# Altium integrated library Analog_Devices_Power_Management_Linear_Regulators.IntLib: 441 symbols (part 20 of 23)
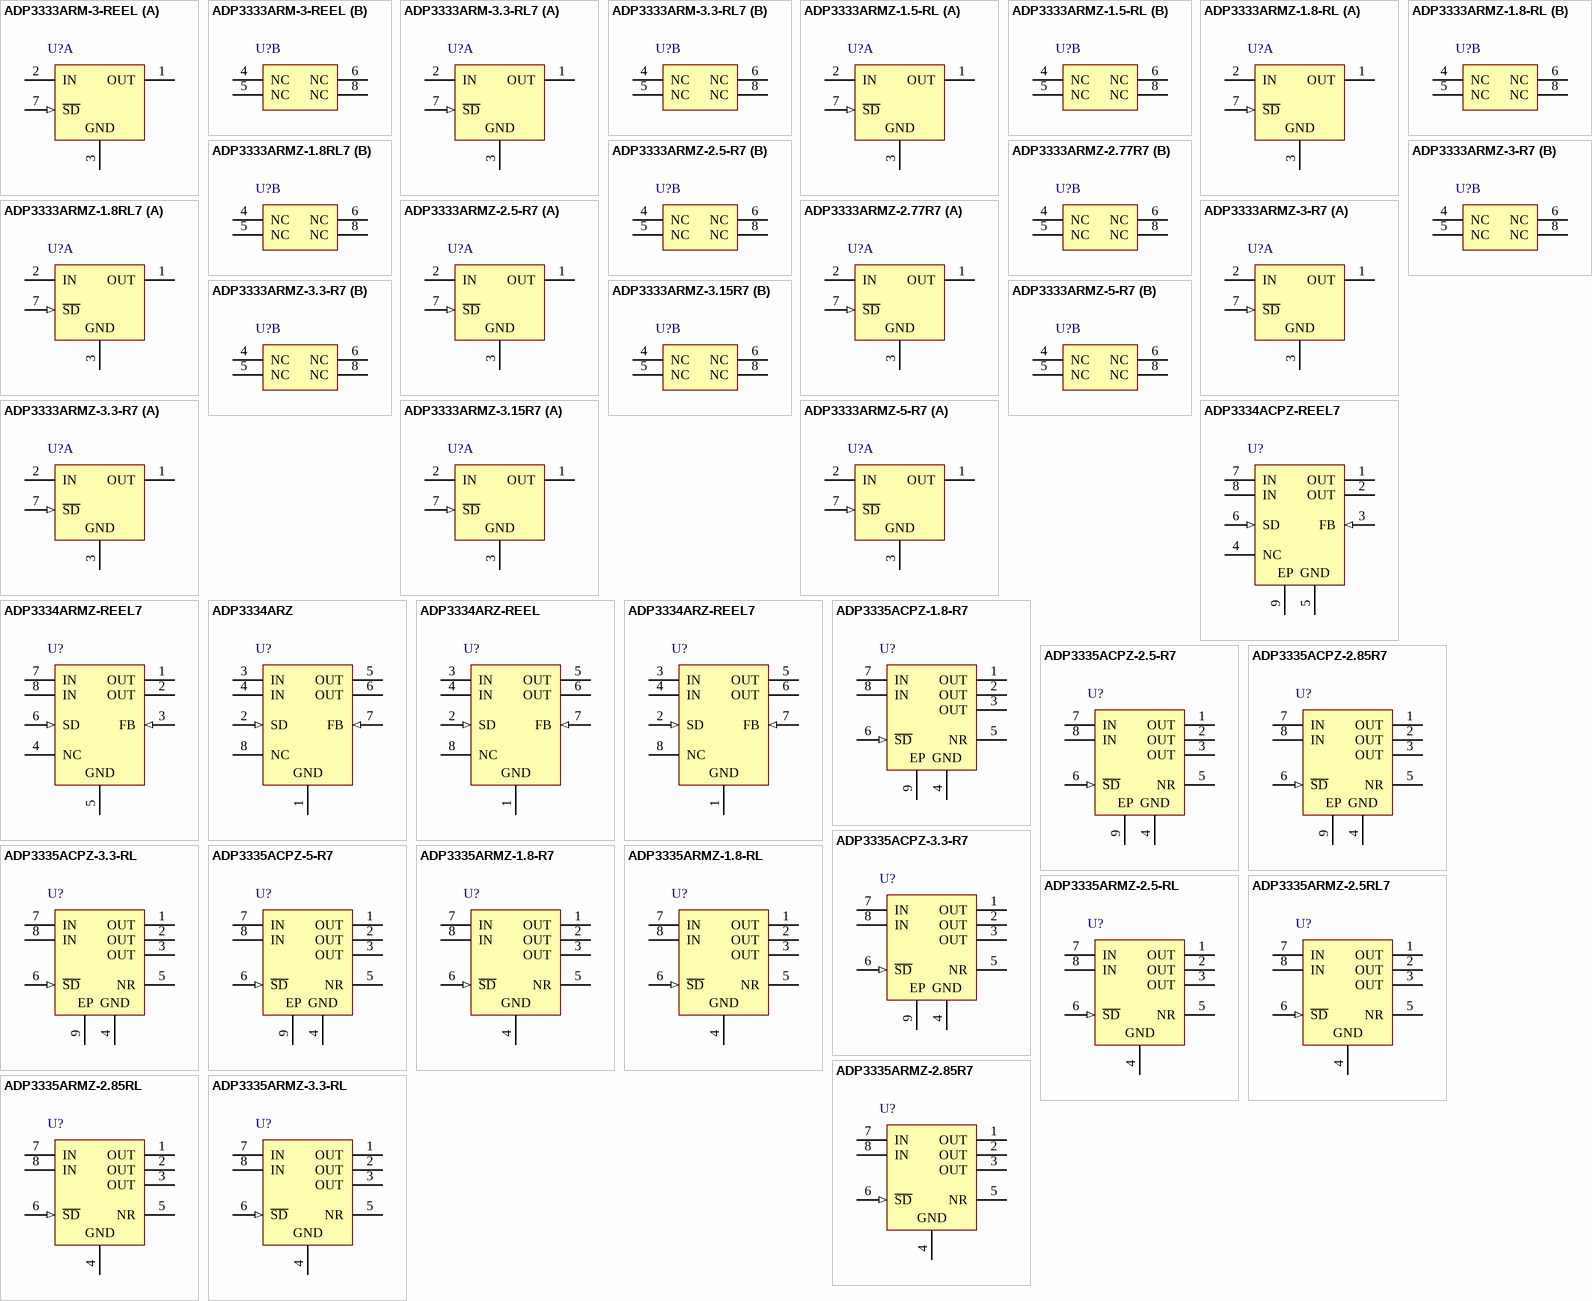
[diagram p30: symbols ADP3333ARM-3-REEL to ADP3335ARMZ-3.3-RL]

## ADP3335ARMZ-2.5RL7
designator U?
High Accuracy, Ultralow IQ, 500 mA, anyCAP Low Dropout Regulator, 2.6 to 12 V Vin, 2.5 V Vout, Industrial, 8-pin SOP (RM-8), Reel; Manufacturer: Analog Devices; PartNumber: ADP3335ARMZ-2.5RL7; Iout max: 500mA; Preset Vout Values (V): 2.5; Supply Current IGND @ Small Load: 80uA; Vin (max) (V): 12; Vin (min) (V): 2.6; DatasheetVersion: Rev. C; PackageVersion: Aug-05; PackageReference: RM-8; PackageDescription: 8-Pin Mini Small Outline Package, Body 3 x 3 mm, Pitch 0.65 mm; Supplier 1: Digi-Key; Supplier Part Number 1: ADP3335ARMZ-2.5RL7TR-ND; Supplier 2: Digi-Key; Supplier Part Number 2: ADP3335ARMZ-2.5RL7CT-ND; Supplier 3: Digi-Key; Supplier Part Number 3: ADP3335ARMZ-2.5RL7DKR-ND; Supplier 4: Farnell; Supplier Part Number 4: 2376934; Supplier 5: Newark; Supplier Part Number 5: 23X6035; Supplier 6: Newark; Supplier Part Number 6: 61M3999; Supplier 7: Mouser; Supplier Part Number 7: 584-ADP3335ARMZ2.5R7; Packing: Reel; Mounting Technology: Surface Mount; Code_JEDEC: MO-187-AA; ComponentLink1Description: Manufacturer URL; ComponentLink1URL: http://www.analog.com/en/index.html; ComponentLink2Description: Datasheet; ComponentLink2URL: http://www.analog.com/static/imported-files/data_sheets/ADP3335.pdf; ComponentLink3Description: Package Specification; ComponentLink3URL: http://www.analog.com/static/imported-files/packages/PKG_PDF/MSOP%28RM%29/RM_8.pdf; ComponentLink4Description: URL Link1; ComponentLink4URL: Product URL:http://www.analog.com/en/ADP3335/productSearch.html
footprint ADI-RM-8_N (SOP, 8-Leads, Body 3x3mm, Pitch 0.65mm, IPC Medium Density)
footprint ADI-RM-8_L (SOP, 8-Leads, Body 3x3mm, Pitch 0.65mm, IPC High Density)
footprint ADI-RM-8_M (SOP, 8-Leads, Body 3x3mm, Pitch 0.65mm, IPC Low Density)
pins: 1 OUT (power) "Output of the Regulator. Bypass to ground with a 1.0 uF or larger capacitor. All pins must be connected together for proper operation.", 2 OUT (power) "Output of the Regulator. Bypass to ground with a 1.0 uF or larger capacitor. All pins must be connected together for proper operation.", 3 OUT (power) "Output of the Regulator. Bypass to ground with a 1.0 uF or larger capacitor. All pins must be connected together for proper operation.", 4 GND (power) "Ground Pin.", 5 NR "Noise Reduction Pin. Used for further reduction of output noise (see the Noise Reduction section for further details).", 6 ~{SD} (in) "Active Low Shutdown Pin. Connect to ground to disable the regulator output. When shutdown is not used, this pin should be connected to the input pin.", 7 IN (power) "Regulator Input. All pins must be connected together for proper operation.", 8 IN (power) "Regulator Input. All pins must be connected together for proper operation."

## ADP3335ARMZ-2.85R7
designator U?
High Accuracy, Ultralow IQ, 500 mA, anyCAP Low Dropout Regulator, 2.6 to 12 V Vin, 2.85 V Vout, Industrial, 8-pin SOP (RM-8), Reel; Manufacturer: Analog Devices; PartNumber: ADP3335ARMZ-2.85R7; Iout max: 500mA; Preset Vout Values (V): 2.85; Supply Current IGND @ Small Load: 80uA; Vin (max) (V): 12; Vin (min) (V): 2.6; DatasheetVersion: Rev. C; PackageVersion: Aug-05; PackageReference: RM-8; PackageDescription: 8-Pin Mini Small Outline Package, Body 3 x 3 mm, Pitch 0.65 mm; Supplier 1: Digi-Key; Supplier Part Number 1: ADP3335ARMZ-2.85R7TR-ND; Supplier 2: Digi-Key; Supplier Part Number 2: ADP3335ARMZ-2.85R7CT-ND; Supplier 3: Digi-Key; Supplier Part Number 3: ADP3335ARMZ-2.85R7DKR-ND; Supplier 4: Mouser; Supplier Part Number 4: 584-AP3335ARMZ2.85R7; Packing: Reel; Mounting Technology: Surface Mount; Code_JEDEC: MO-187-AA; ComponentLink1Description: Manufacturer URL; ComponentLink1URL: http://www.analog.com/en/index.html; ComponentLink2Description: Datasheet; ComponentLink2URL: http://www.analog.com/static/imported-files/data_sheets/ADP3335.pdf; ComponentLink3Description: Package Specification; ComponentLink3URL: http://www.analog.com/static/imported-files/packages/PKG_PDF/MSOP%28RM%29/RM_8.pdf; ComponentLink4Description: URL Link1; ComponentLink4URL: Product URL:http://www.analog.com/en/ADP3335/productSearch.html
footprint ADI-RM-8_N (SOP, 8-Leads, Body 3x3mm, Pitch 0.65mm, IPC Medium Density)
footprint ADI-RM-8_L (SOP, 8-Leads, Body 3x3mm, Pitch 0.65mm, IPC High Density)
footprint ADI-RM-8_M (SOP, 8-Leads, Body 3x3mm, Pitch 0.65mm, IPC Low Density)
pins: 1 OUT (power) "Output of the Regulator. Bypass to ground with a 1.0 uF or larger capacitor. All pins must be connected together for proper operation.", 2 OUT (power) "Output of the Regulator. Bypass to ground with a 1.0 uF or larger capacitor. All pins must be connected together for proper operation.", 3 OUT (power) "Output of the Regulator. Bypass to ground with a 1.0 uF or larger capacitor. All pins must be connected together for proper operation.", 4 GND (power) "Ground Pin.", 5 NR "Noise Reduction Pin. Used for further reduction of output noise (see the Noise Reduction section for further details).", 6 ~{SD} (in) "Active Low Shutdown Pin. Connect to ground to disable the regulator output. When shutdown is not used, this pin should be connected to the input pin.", 7 IN (power) "Regulator Input. All pins must be connected together for proper operation.", 8 IN (power) "Regulator Input. All pins must be connected together for proper operation."

## ADP3335ARMZ-2.85RL
designator U?
High Accuracy, Ultralow IQ, 500 mA, anyCAP Low Dropout Regulator, 2.6 to 12 V Vin, 2.85 V Vout, Industrial, 8-pin SOP (RM-8), Reel; Manufacturer: Analog Devices; PartNumber: ADP3335ARMZ-2.85RL; Vin (max) (V): 12; Vin (min) (V): 2.6; DatasheetVersion: Rev. C; PackageVersion: Aug-05; PackageReference: RM-8; PackageDescription: 8-Pin Mini Small Outline Package, Body 3 x 3 mm, Pitch 0.65 mm; Supplier 1: Digi-Key; Supplier Part Number 1: ADP3335ARMZ-2.85RLTR-ND; Supplier 2: Digi-Key; Supplier Part Number 2: ADP3335ARMZ-2.85RLCT-ND; Supplier 3: Digi-Key; Supplier Part Number 3: ADP3335ARMZ-2.85RLDKR-ND; Supplier 4: Mouser; Supplier Part Number 4: 584-ADP3335ARMZ2.85R; Packing: Reel; Mounting Technology: Surface Mount; Code_JEDEC: MO-187-AA; ComponentLink1Description: Manufacturer URL; ComponentLink1URL: http://www.analog.com/en/index.html; ComponentLink2Description: Datasheet; ComponentLink2URL: http://www.analog.com/static/imported-files/data_sheets/ADP3335.pdf; ComponentLink3Description: Package Specification; ComponentLink3URL: http://www.analog.com/static/imported-files/packages/PKG_PDF/MSOP%28RM%29/RM_8.pdf; ComponentLink4Description: URL Link1; ComponentLink4URL: Product URL:http://www.analog.com/en/ADP3335/productSearch.html
footprint ADI-RM-8_N (SOP, 8-Leads, Body 3x3mm, Pitch 0.65mm, IPC Medium Density)
footprint ADI-RM-8_L (SOP, 8-Leads, Body 3x3mm, Pitch 0.65mm, IPC High Density)
footprint ADI-RM-8_M (SOP, 8-Leads, Body 3x3mm, Pitch 0.65mm, IPC Low Density)
pins: 1 OUT (power) "Output of the Regulator. Bypass to ground with a 1.0 uF or larger capacitor. All pins must be connected together for proper operation.", 2 OUT (power) "Output of the Regulator. Bypass to ground with a 1.0 uF or larger capacitor. All pins must be connected together for proper operation.", 3 OUT (power) "Output of the Regulator. Bypass to ground with a 1.0 uF or larger capacitor. All pins must be connected together for proper operation.", 4 GND (power) "Ground Pin.", 5 NR "Noise Reduction Pin. Used for further reduction of output noise (see the Noise Reduction section for further details).", 6 ~{SD} (in) "Active Low Shutdown Pin. Connect to ground to disable the regulator output. When shutdown is not used, this pin should be connected to the input pin.", 7 IN (power) "Regulator Input. All pins must be connected together for proper operation.", 8 IN (power) "Regulator Input. All pins must be connected together for proper operation."

## ADP3335ARMZ-3.3-RL
designator U?
High Accuracy, Ultralow IQ, 500 mA, anyCAP Low Dropout Regulator, 2.6 to 12 V Vin, 3.3 V Vout, Industrial, 8-pin SOP (RM-8), Reel; Manufacturer: Analog Devices; PartNumber: ADP3335ARMZ-3.3-RL; Vin (max) (V): 12; Vin (min) (V): 2.6; DatasheetVersion: Rev. C; PackageVersion: Aug-05; PackageReference: RM-8; PackageDescription: 8-Pin Mini Small Outline Package, Body 3 x 3 mm, Pitch 0.65 mm; Supplier 1: Digi-Key; Supplier Part Number 1: ADP3335ARMZ-3.3-RLTR-ND; Supplier 2: Digi-Key; Supplier Part Number 2: ADP3335ARMZ-3.3-RLCT-ND; Supplier 3: Digi-Key; Supplier Part Number 3: ADP3335ARMZ-3.3-RLDKR-ND; Supplier 4: Newark; Supplier Part Number 4: 59K2607; Supplier 5: Mouser; Supplier Part Number 5: 584-ADP3335ARMZ3.3R; Packing: Reel; Mounting Technology: Surface Mount; Code_JEDEC: MO-187-AA; ComponentLink1Description: Manufacturer URL; ComponentLink1URL: http://www.analog.com/en/index.html; ComponentLink2Description: Datasheet; ComponentLink2URL: http://www.analog.com/static/imported-files/data_sheets/ADP3335.pdf; ComponentLink3Description: Package Specification; ComponentLink3URL: http://www.analog.com/static/imported-files/packages/PKG_PDF/MSOP%28RM%29/RM_8.pdf; ComponentLink4Description: URL Link1; ComponentLink4URL: Product URL:http://www.analog.com/en/ADP3335/productSearch.html
footprint ADI-RM-8_N (SOP, 8-Leads, Body 3x3mm, Pitch 0.65mm, IPC Medium Density)
footprint ADI-RM-8_L (SOP, 8-Leads, Body 3x3mm, Pitch 0.65mm, IPC High Density)
footprint ADI-RM-8_M (SOP, 8-Leads, Body 3x3mm, Pitch 0.65mm, IPC Low Density)
pins: 1 OUT (power) "Output of the Regulator. Bypass to ground with a 1.0 uF or larger capacitor. All pins must be connected together for proper operation.", 2 OUT (power) "Output of the Regulator. Bypass to ground with a 1.0 uF or larger capacitor. All pins must be connected together for proper operation.", 3 OUT (power) "Output of the Regulator. Bypass to ground with a 1.0 uF or larger capacitor. All pins must be connected together for proper operation.", 4 GND (power) "Ground Pin.", 5 NR "Noise Reduction Pin. Used for further reduction of output noise (see the Noise Reduction section for further details).", 6 ~{SD} (in) "Active Low Shutdown Pin. Connect to ground to disable the regulator output. When shutdown is not used, this pin should be connected to the input pin.", 7 IN (power) "Regulator Input. All pins must be connected together for proper operation.", 8 IN (power) "Regulator Input. All pins must be connected together for proper operation."

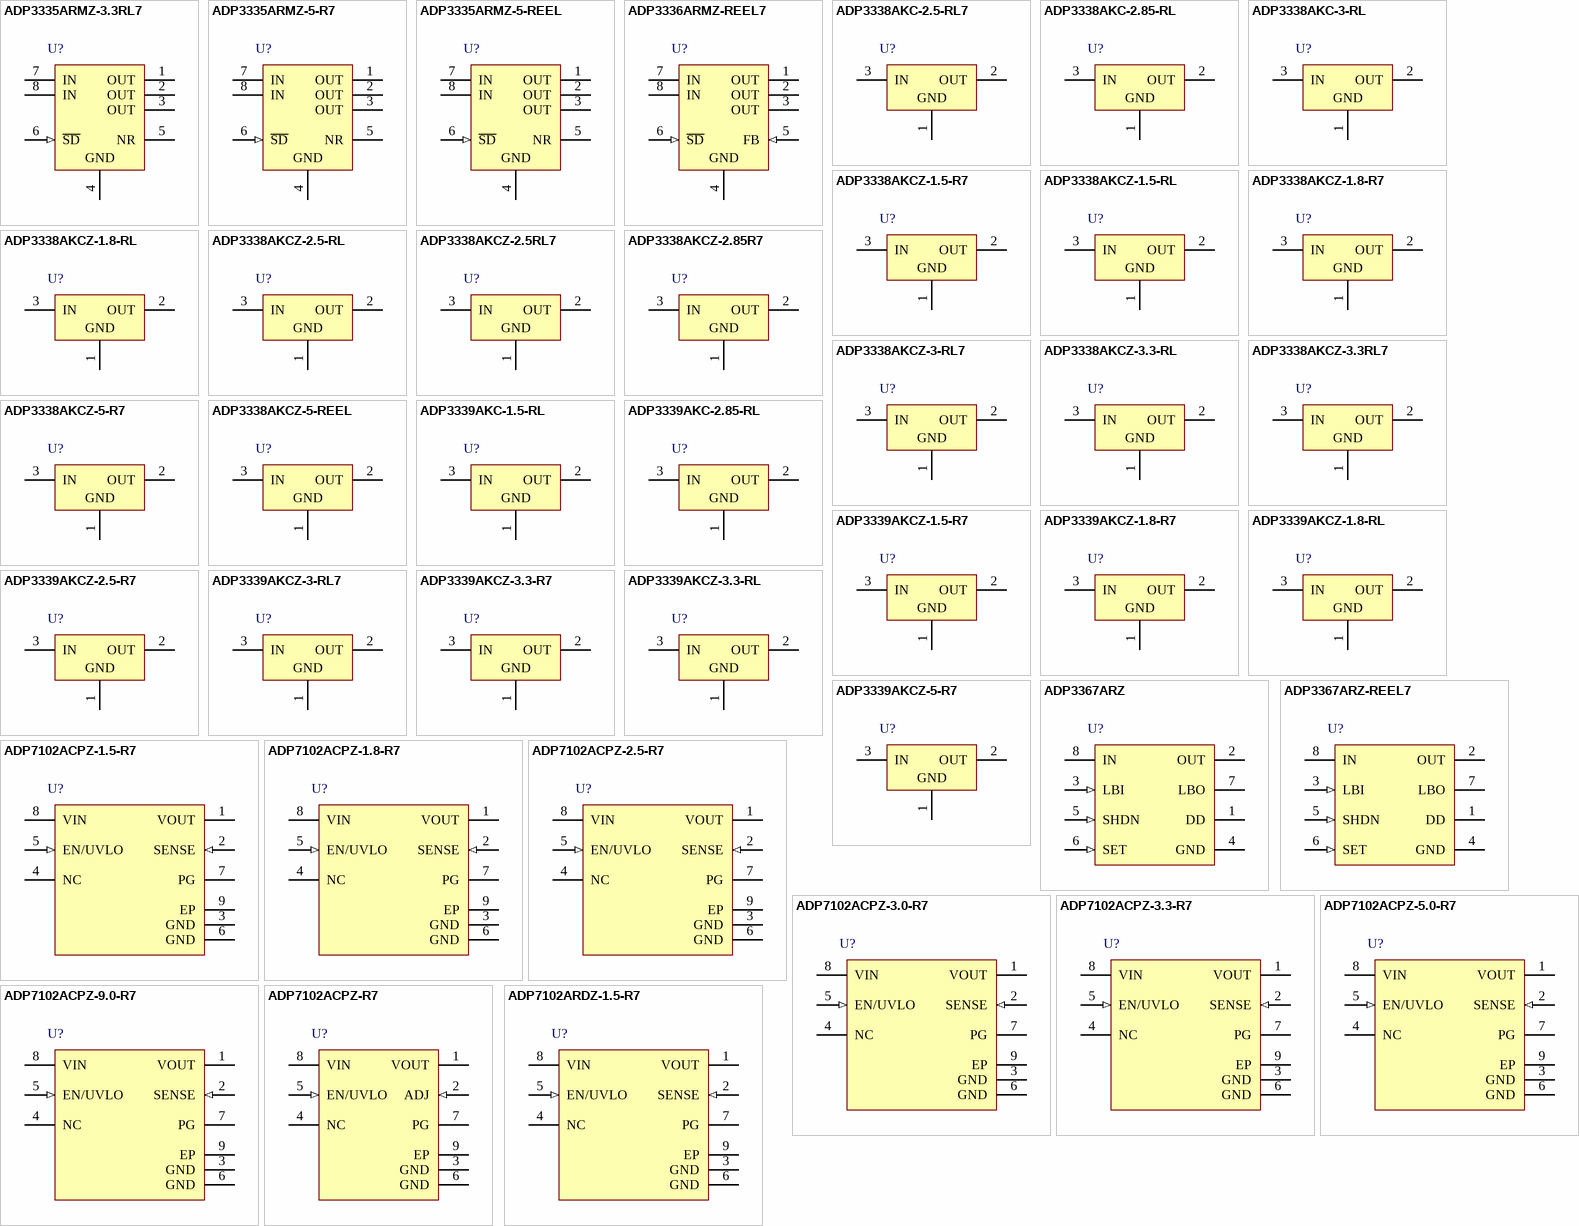
[diagram p10: symbols ADP3335ARMZ-3.3RL7 to ADP7102ARDZ-1.5-R7]

## ADP3335ARMZ-3.3RL7
designator U?
High Accuracy, Ultralow IQ, 500 mA, anyCAP Low Dropout Regulator, 2.6 to 12 V Vin, 3.3 V Vout, Industrial, 8-pin SOP (RM-8), Reel; Manufacturer: Analog Devices; PartNumber: ADP3335ARMZ-3.3RL7; Vin (max) (V): 12; Vin (min) (V): 2.6; DatasheetVersion: Rev. C; PackageVersion: Aug-05; PackageReference: RM-8; PackageDescription: 8-Pin Mini Small Outline Package, Body 3 x 3 mm, Pitch 0.65 mm; Supplier 1: Digi-Key; Supplier Part Number 1: ADP3335ARMZ-3.3RL7TR-ND; Supplier 2: Digi-Key; Supplier Part Number 2: ADP3335ARMZ-3.3RL7CT-ND; Supplier 3: Digi-Key; Supplier Part Number 3: ADP3335ARMZ-3.3RL7DKR-ND; Supplier 4: Newark; Supplier Part Number 4: 11P2900; Supplier 5: Mouser; Supplier Part Number 5: 584-ADP3335ARMZ3.3R7; Packing: Reel; Mounting Technology: Surface Mount; Code_JEDEC: MO-187-AA; ComponentLink1Description: Manufacturer URL; ComponentLink1URL: http://www.analog.com/en/index.html; ComponentLink2Description: Datasheet; ComponentLink2URL: http://www.analog.com/static/imported-files/data_sheets/ADP3335.pdf; ComponentLink3Description: Package Specification; ComponentLink3URL: http://www.analog.com/static/imported-files/packages/PKG_PDF/MSOP%28RM%29/RM_8.pdf; ComponentLink4Description: URL Link1; ComponentLink4URL: Product URL:http://www.analog.com/en/ADP3335/productSearch.html
footprint ADI-RM-8_N (SOP, 8-Leads, Body 3x3mm, Pitch 0.65mm, IPC Medium Density)
footprint ADI-RM-8_L (SOP, 8-Leads, Body 3x3mm, Pitch 0.65mm, IPC High Density)
footprint ADI-RM-8_M (SOP, 8-Leads, Body 3x3mm, Pitch 0.65mm, IPC Low Density)
pins: 1 OUT (power) "Output of the Regulator. Bypass to ground with a 1.0 uF or larger capacitor. All pins must be connected together for proper operation.", 2 OUT (power) "Output of the Regulator. Bypass to ground with a 1.0 uF or larger capacitor. All pins must be connected together for proper operation.", 3 OUT (power) "Output of the Regulator. Bypass to ground with a 1.0 uF or larger capacitor. All pins must be connected together for proper operation.", 4 GND (power) "Ground Pin.", 5 NR "Noise Reduction Pin. Used for further reduction of output noise (see the Noise Reduction section for further details).", 6 ~{SD} (in) "Active Low Shutdown Pin. Connect to ground to disable the regulator output. When shutdown is not used, this pin should be connected to the input pin.", 7 IN (power) "Regulator Input. All pins must be connected together for proper operation.", 8 IN (power) "Regulator Input. All pins must be connected together for proper operation."

## ADP3335ARMZ-5-R7
designator U?
High Accuracy, Ultralow IQ, 500 mA, anyCAP Low Dropout Regulator, 2.6 to 12 V Vin, 5 V Vout, Industrial, 8-pin SOP (RM-8), Reel; Manufacturer: Analog Devices; PartNumber: ADP3335ARMZ-5-R7; Vin (max) (V): 12; Vin (min) (V): 2.6; DatasheetVersion: Rev. C; PackageVersion: Aug-05; PackageReference: RM-8; PackageDescription: 8-Pin Mini Small Outline Package, Body 3 x 3 mm, Pitch 0.65 mm; Supplier 1: Digi-Key; Supplier Part Number 1: ADP3335ARMZ-5-R7TR-ND; Supplier 2: Digi-Key; Supplier Part Number 2: ADP3335ARMZ-5-R7CT-ND; Supplier 3: Digi-Key; Supplier Part Number 3: ADP3335ARMZ-5-R7DKR-ND; Supplier 4: Farnell; Supplier Part Number 4: 2074873; Supplier 5: Newark; Supplier Part Number 5: 59K2609; Supplier 6: Newark; Supplier Part Number 6: 67W2717; Supplier 7: Mouser; Supplier Part Number 7: 584-ADP3335ARMZ-5-R7; Packing: Reel; Mounting Technology: Surface Mount; Code_JEDEC: MO-187-AA; ComponentLink1Description: Manufacturer URL; ComponentLink1URL: http://www.analog.com/en/index.html; ComponentLink2Description: Datasheet; ComponentLink2URL: http://www.analog.com/static/imported-files/data_sheets/ADP3335.pdf; ComponentLink3Description: Package Specification; ComponentLink3URL: http://www.analog.com/static/imported-files/packages/PKG_PDF/MSOP%28RM%29/RM_8.pdf; ComponentLink4Description: URL Link1; ComponentLink4URL: Product URL:http://www.analog.com/en/ADP3335/productSearch.html
footprint ADI-RM-8_N (SOP, 8-Leads, Body 3x3mm, Pitch 0.65mm, IPC Medium Density)
footprint ADI-RM-8_L (SOP, 8-Leads, Body 3x3mm, Pitch 0.65mm, IPC High Density)
footprint ADI-RM-8_M (SOP, 8-Leads, Body 3x3mm, Pitch 0.65mm, IPC Low Density)
pins: 1 OUT (power) "Output of the Regulator. Bypass to ground with a 1.0 uF or larger capacitor. All pins must be connected together for proper operation.", 2 OUT (power) "Output of the Regulator. Bypass to ground with a 1.0 uF or larger capacitor. All pins must be connected together for proper operation.", 3 OUT (power) "Output of the Regulator. Bypass to ground with a 1.0 uF or larger capacitor. All pins must be connected together for proper operation.", 4 GND (power) "Ground Pin.", 5 NR "Noise Reduction Pin. Used for further reduction of output noise (see the Noise Reduction section for further details).", 6 ~{SD} (in) "Active Low Shutdown Pin. Connect to ground to disable the regulator output. When shutdown is not used, this pin should be connected to the input pin.", 7 IN (power) "Regulator Input. All pins must be connected together for proper operation.", 8 IN (power) "Regulator Input. All pins must be connected together for proper operation."

## ADP3335ARMZ-5-REEL
designator U?
High Accuracy, Ultralow IQ, 500 mA, anyCAP Low Dropout Regulator, 2.6 to 12 V Vin, 5 V Vout, Industrial, 8-pin SOP (RM-8), Reel; Manufacturer: Analog Devices; PartNumber: ADP3335ARMZ-5-REEL; Vin (max) (V): 12; Vin (min) (V): 2.6; DatasheetVersion: Rev. C; PackageVersion: Aug-05; PackageReference: RM-8; PackageDescription: 8-Pin Mini Small Outline Package, Body 3 x 3 mm, Pitch 0.65 mm; Supplier 1: Digi-Key; Supplier Part Number 1: ADP3335ARMZ-5-REELTR-ND; Supplier 2: Digi-Key; Supplier Part Number 2: ADP3335ARMZ-5-REELCT-ND; Supplier 3: Digi-Key; Supplier Part Number 3: ADP3335ARMZ-5-REELDKR-ND; Supplier 4: Newark; Supplier Part Number 4: 59K2608; Supplier 5: Mouser; Supplier Part Number 5: 584-ADP3335ARMZ5-R; Packing: Reel; Mounting Technology: Surface Mount; Code_JEDEC: MO-187-AA; ComponentLink1Description: Manufacturer URL; ComponentLink1URL: http://www.analog.com/en/index.html; ComponentLink2Description: Datasheet; ComponentLink2URL: http://www.analog.com/static/imported-files/data_sheets/ADP3335.pdf; ComponentLink3Description: Package Specification; ComponentLink3URL: http://www.analog.com/static/imported-files/packages/PKG_PDF/MSOP%28RM%29/RM_8.pdf; ComponentLink4Description: URL Link1; ComponentLink4URL: Product URL:http://www.analog.com/en/ADP3335/productSearch.html
footprint ADI-RM-8_N (SOP, 8-Leads, Body 3x3mm, Pitch 0.65mm, IPC Medium Density)
footprint ADI-RM-8_L (SOP, 8-Leads, Body 3x3mm, Pitch 0.65mm, IPC High Density)
footprint ADI-RM-8_M (SOP, 8-Leads, Body 3x3mm, Pitch 0.65mm, IPC Low Density)
pins: 1 OUT (power) "Output of the Regulator. Bypass to ground with a 1.0 uF or larger capacitor. All pins must be connected together for proper operation.", 2 OUT (power) "Output of the Regulator. Bypass to ground with a 1.0 uF or larger capacitor. All pins must be connected together for proper operation.", 3 OUT (power) "Output of the Regulator. Bypass to ground with a 1.0 uF or larger capacitor. All pins must be connected together for proper operation.", 4 GND (power) "Ground Pin.", 5 NR "Noise Reduction Pin. Used for further reduction of output noise (see the Noise Reduction section for further details).", 6 ~{SD} (in) "Active Low Shutdown Pin. Connect to ground to disable the regulator output. When shutdown is not used, this pin should be connected to the input pin.", 7 IN (power) "Regulator Input. All pins must be connected together for proper operation.", 8 IN (power) "Regulator Input. All pins must be connected together for proper operation."

## ADP3336ARMZ-REEL7
designator U?
High Accuracy Ultralow IQ, 500 mA anyCAP Adjustable Low Dropout Regulator, 2.6 to 12 V Vin, 1.5 to 10 V Vout, Industrial, 8-pin SOP (RM-8), Reel; Manufacturer: Analog Devices; PartNumber: ADP3336ARMZ-REEL7; Vin (max) (V): 12; Vin (min) (V): 2.6; DatasheetVersion: Rev. A; PackageVersion: Aug-05; PackageReference: RM-8; PackageDescription: 8-Pin Mini Small Outline Package, Body 3 x 3 mm, Pitch 0.65 mm; Supplier 1: Digi-Key; Supplier Part Number 1: ADP3336ARMZ-REEL7TR-ND; Supplier 2: Digi-Key; Supplier Part Number 2: ADP3336ARMZ-REEL7CT-ND; Supplier 3: Digi-Key; Supplier Part Number 3: ADP3336ARMZ-REEL7DKR-ND; Supplier 4: Farnell; Supplier Part Number 4: 2376935; Supplier 5: Newark; Supplier Part Number 5: 96K2076; Supplier 6: Newark; Supplier Part Number 6: 28X3291; Supplier 7: Mouser; Supplier Part Number 7: 584-ADP3336ARMZ-R7; Packing: Reel; Mounting Technology: Surface Mount; Code_JEDEC: MO-187-AA; ComponentLink1Description: Manufacturer URL; ComponentLink1URL: http://www.analog.com/en/index.html; ComponentLink2Description: Datasheet; ComponentLink2URL: http://www.analog.com/static/imported-files/data_sheets/ADP3336.pdf; ComponentLink3Description: Package Specification; ComponentLink3URL: http://www.analog.com/static/imported-files/packages/PKG_PDF/MSOP%28RM%29/RM_8.pdf; ComponentLink4Description: URL Link1; ComponentLink4URL: Product URL:http://www.analog.com/en/ADP3336/productSearch.html
footprint ADI-RM-8_N (SOP, 8-Leads, Body 3x3mm, Pitch 0.65mm, IPC Medium Density)
footprint ADI-RM-8_L (SOP, 8-Leads, Body 3x3mm, Pitch 0.65mm, IPC High Density)
footprint ADI-RM-8_M (SOP, 8-Leads, Body 3x3mm, Pitch 0.65mm, IPC Low Density)
pins: 1 OUT (power) "Output of the Regulator. Bypass to ground with a 1.0 uF or larger capacitor. All pins must be connected together for proper operation.", 2 OUT (power) "Output of the Regulator. Bypass to ground with a 1.0 uF or larger capacitor. All pins must be connected together for proper operation.", 3 OUT (power) "Output of the Regulator. Bypass to ground with a 1.0 uF or larger capacitor. All pins must be connected together for proper operation.", 4 GND (power) "Ground Pin.", 5 FB (in) "Feedback Input. Connect to an external resistor divider which sets the output voltage. Can also be used for further reduction of output noise (see text for detail). Capacitor required if COUT > 3.3 uF.", 6 ~{SD} (in) "Active Low Shutdown Pin. Connect to ground to disable the regulator output. When shutdown is not used, this pin should be connected to the input pin.", 7 IN (power) "Regulator Input. All pins must be connected together for proper operation", 8 IN (power) "Regulator Input. All pins must be connected together for proper operation"

## ADP3338AKC-2.5-RL7
designator U?
High Accuracy, Ultralow IQ, 1 A, anyCAP(R) Low Dropout Regulator, 2.7 to 8 V Vin, 2.5 V Vout, Industrial, 3-pin SOT223 (KC-3), Reel; Manufacturer: Analog Devices; PartNumber: ADP3338AKC-2.5-RL7; Vin (max) (V): 8; Vin (min) (V): 2.7; DatasheetVersion: Rev. B; PackageVersion: 11-20-2012-B, 11/2012; PackageReference: KC-3; PackageDescription: 3-Pin Small Outline Transistor Package, Body 3.5 x 6.5 mm, Pitch 2.3 mm; Supplier 1: Digi-Key; Supplier Part Number 1: ADP3338AKC-2.5-RL7TR-ND; Supplier 2: Digi-Key; Supplier Part Number 2: ADP3338AKC-2.5-RL7CT-ND; Supplier 3: Digi-Key; Supplier Part Number 3: ADP3338AKC-2.5-RL7DKR-ND; Supplier 4: Mouser; Supplier Part Number 4: 584-ADP3338AKC-2.5R7; Packing: Reel; Mounting Technology: Surface Mount; Code_JEDEC: TO-261-AA; ComponentLink1Description: Manufacturer URL; ComponentLink1URL: http://www.analog.com/en/index.html; ComponentLink2Description: Datasheet; ComponentLink2URL: http://www.analog.com/static/imported-files/data_sheets/ADP3338.pdf; ComponentLink3Description: Package Specification; ComponentLink3URL: http:/www.analog.com/static/imported-files/packages/PKG_PDF/SOT_223(KC)/KC_3.pdf; ComponentLink4Description: URL Link1; ComponentLink4URL: Product URL:http://www.analog.com/en/ADP3338/productSearch.html
footprint ADI-KC-3_N (SOT223, 4-Leads, Body 6.5x3.5mm, Pitch 2.3mm, IPC Medium Density)
footprint ADI-KC-3_L (SOT223, 4-Leads, Body 6.5x3.5mm, Pitch 2.3mm, IPC High Density)
footprint ADI-KC-3_M (SOT223, 4-Leads, Body 6.5x3.5mm, Pitch 2.3mm, IPC Low Density)
pins: 1 GND (power) "Ground Pin.", 2 OUT (power) "Regulator Output. Bypass to ground with a 1 uF or larger capacitor.", 3 IN (power) "Regulator Input. Bypass to ground with a 1 uF or larger capacitor."

## ADP3338AKC-2.85-RL
designator U?
High Accuracy, Ultralow IQ, 1 A, anyCAP(R) Low Dropout Regulator, 2.7 to 8 V Vin, 2.85 V Vout, Industrial, 3-pin SOT223 (KC-3), Reel; Manufacturer: Analog Devices; PartNumber: ADP3338AKC-2.85-RL; Vin (max) (V): 8; Vin (min) (V): 2.7; DatasheetVersion: Rev. B; PackageVersion: 11-20-2012-B, 11/2012; PackageReference: KC-3; PackageDescription: 3-Pin Small Outline Transistor Package, Body 3.5 x 6.5 mm, Pitch 2.3 mm; Supplier 1: Digi-Key; Supplier Part Number 1: ADP3338AKC-2.85-RLTR-ND; Supplier 2: Digi-Key; Supplier Part Number 2: ADP3338AKC-2.85-RLCT-ND; Supplier 3: Digi-Key; Supplier Part Number 3: ADP3338AKC-2.85-RLDKR-ND; Supplier 4: Mouser; Supplier Part Number 4: 584-ADP3338AKC-2.85R; Packing: Reel; Mounting Technology: Surface Mount; Code_JEDEC: TO-261-AA; ComponentLink1Description: Manufacturer URL; ComponentLink1URL: http://www.analog.com/en/index.html; ComponentLink2Description: Datasheet; ComponentLink2URL: http://www.analog.com/static/imported-files/data_sheets/ADP3338.pdf; ComponentLink3Description: Package Specification; ComponentLink3URL: http:/www.analog.com/static/imported-files/packages/PKG_PDF/SOT_223(KC)/KC_3.pdf; ComponentLink4Description: URL Link1; ComponentLink4URL: Product URL:http://www.analog.com/en/ADP3338/productSearch.html
footprint ADI-KC-3_N (SOT223, 4-Leads, Body 6.5x3.5mm, Pitch 2.3mm, IPC Medium Density)
footprint ADI-KC-3_L (SOT223, 4-Leads, Body 6.5x3.5mm, Pitch 2.3mm, IPC High Density)
footprint ADI-KC-3_M (SOT223, 4-Leads, Body 6.5x3.5mm, Pitch 2.3mm, IPC Low Density)
pins: 1 GND (power) "Ground Pin.", 2 OUT (power) "Regulator Output. Bypass to ground with a 1 uF or larger capacitor.", 3 IN (power) "Regulator Input. Bypass to ground with a 1 uF or larger capacitor."

## ADP3338AKC-3-RL
designator U?
High Accuracy, Ultralow IQ, 1 A, anyCAP(R) Low Dropout Regulator, 2.7 to 8 V Vin, 3 V Vout, Industrial, 3-pin SOT223 (KC-3), Reel; Manufacturer: Analog Devices; PartNumber: ADP3338AKC-3-RL; Vin (max) (V): 8; Vin (min) (V): 2.7; DatasheetVersion: Rev. B; PackageVersion: 11-20-2012-B, 11/2012; PackageReference: KC-3; PackageDescription: 3-Pin Small Outline Transistor Package, Body 3.5 x 6.5 mm, Pitch 2.3 mm; Supplier 1: Digi-Key; Supplier Part Number 1: ADP3338AKC-3-RLTR-ND; Supplier 2: Digi-Key; Supplier Part Number 2: ADP3338AKC-3-RLCT-ND; Supplier 3: Digi-Key; Supplier Part Number 3: ADP3338AKC-3-RLDKR-ND; Supplier 4: Mouser; Supplier Part Number 4: 584-ADP3338AKC-3-R; Packing: Reel; Mounting Technology: Surface Mount; Code_JEDEC: TO-261-AA; ComponentLink1Description: Manufacturer URL; ComponentLink1URL: http://www.analog.com/en/index.html; ComponentLink2Description: Datasheet; ComponentLink2URL: http://www.analog.com/static/imported-files/data_sheets/ADP3338.pdf; ComponentLink3Description: Package Specification; ComponentLink3URL: http:/www.analog.com/static/imported-files/packages/PKG_PDF/SOT_223(KC)/KC_3.pdf; ComponentLink4Description: URL Link1; ComponentLink4URL: Product URL:http://www.analog.com/en/ADP3338/productSearch.html
footprint ADI-KC-3_N (SOT223, 4-Leads, Body 6.5x3.5mm, Pitch 2.3mm, IPC Medium Density)
footprint ADI-KC-3_L (SOT223, 4-Leads, Body 6.5x3.5mm, Pitch 2.3mm, IPC High Density)
footprint ADI-KC-3_M (SOT223, 4-Leads, Body 6.5x3.5mm, Pitch 2.3mm, IPC Low Density)
pins: 1 GND (power) "Ground Pin.", 2 OUT (power) "Regulator Output. Bypass to ground with a 1 uF or larger capacitor.", 3 IN (power) "Regulator Input. Bypass to ground with a 1 uF or larger capacitor."

## ADP3338AKCZ-1.5-R7
designator U?
High Accuracy, Ultralow IQ, 1 A, anyCAP(R) Low Dropout Regulator, 2.7 to 8 V Vin, 1.5 V Vout, Industrial, 3-pin SOT223 (KC-3), Reel; Manufacturer: Analog Devices; PartNumber: ADP3338AKCZ-1.5-R7; Vin (max) (V): 8; Vin (min) (V): 2.7; DatasheetVersion: Rev. B; PackageVersion: 11-20-2012-B, 11/2012; PackageReference: KC-3; PackageDescription: 3-Pin Small Outline Transistor Package, Body 3.5 x 6.5 mm, Pitch 2.3 mm; Supplier 1: Digi-Key; Supplier Part Number 1: ADP3338AKCZ-1.5-R7TR-ND; Supplier 2: Digi-Key; Supplier Part Number 2: ADP3338AKCZ-1.5-R7CT-ND; Supplier 3: Digi-Key; Supplier Part Number 3: ADP3338AKCZ-1.5-R7DKR-ND; Supplier 4: Farnell; Supplier Part Number 4: 2312902; Supplier 5: Newark; Supplier Part Number 5: 12M8159; Supplier 6: Newark; Supplier Part Number 6: 67W2718; Supplier 7: Mouser; Supplier Part Number 7: 584-ADP3338AKCZ1.5R7; Packing: Reel; Mounting Technology: Surface Mount; Code_JEDEC: TO-261-AA; ComponentLink1Description: Manufacturer URL; ComponentLink1URL: http://www.analog.com/en/index.html; ComponentLink2Description: Datasheet; ComponentLink2URL: http://www.analog.com/static/imported-files/data_sheets/ADP3338.pdf; ComponentLink3Description: Package Specification; ComponentLink3URL: http:/www.analog.com/static/imported-files/packages/PKG_PDF/SOT_223(KC)/KC_3.pdf; ComponentLink4Description: URL Link1; ComponentLink4URL: Product URL:http://www.analog.com/en/ADP3338/productSearch.html
footprint ADI-KC-3_N (SOT223, 4-Leads, Body 6.5x3.5mm, Pitch 2.3mm, IPC Medium Density)
footprint ADI-KC-3_L (SOT223, 4-Leads, Body 6.5x3.5mm, Pitch 2.3mm, IPC High Density)
footprint ADI-KC-3_M (SOT223, 4-Leads, Body 6.5x3.5mm, Pitch 2.3mm, IPC Low Density)
pins: 1 GND (power) "Ground Pin.", 2 OUT (power) "Regulator Output. Bypass to ground with a 1 uF or larger capacitor.", 3 IN (power) "Regulator Input. Bypass to ground with a 1 uF or larger capacitor."

## ADP3338AKCZ-1.5-RL
designator U?
High Accuracy, Ultralow IQ, 1 A, anyCAP(R) Low Dropout Regulator, 2.7 to 8 V Vin, 1.5 V Vout, Industrial, 3-pin SOT223 (KC-3), Reel; Manufacturer: Analog Devices; PartNumber: ADP3338AKCZ-1.5-RL; Vin (max) (V): 8; Vin (min) (V): 2.7; DatasheetVersion: Rev. B; PackageVersion: 11-20-2012-B, 11/2012; PackageReference: KC-3; PackageDescription: 3-Pin Small Outline Transistor Package, Body 3.5 x 6.5 mm, Pitch 2.3 mm; Supplier 1: Digi-Key; Supplier Part Number 1: ADP3338AKCZ-1.5-RLTR-ND; Supplier 2: Digi-Key; Supplier Part Number 2: ADP3338AKCZ-1.5-RLCT-ND; Supplier 3: Digi-Key; Supplier Part Number 3: ADP3338AKCZ-1.5-RLDKR-ND; Supplier 4: Newark; Supplier Part Number 4: 59K2614; Supplier 5: Mouser; Supplier Part Number 5: 584-ADP3338AKCZ1.5R; Packing: Reel; Mounting Technology: Surface Mount; Code_JEDEC: TO-261-AA; ComponentLink1Description: Manufacturer URL; ComponentLink1URL: http://www.analog.com/en/index.html; ComponentLink2Description: Datasheet; ComponentLink2URL: http://www.analog.com/static/imported-files/data_sheets/ADP3338.pdf; ComponentLink3Description: Package Specification; ComponentLink3URL: http:/www.analog.com/static/imported-files/packages/PKG_PDF/SOT_223(KC)/KC_3.pdf; ComponentLink4Description: URL Link1; ComponentLink4URL: Product URL:http://www.analog.com/en/ADP3338/productSearch.html
footprint ADI-KC-3_N (SOT223, 4-Leads, Body 6.5x3.5mm, Pitch 2.3mm, IPC Medium Density)
footprint ADI-KC-3_L (SOT223, 4-Leads, Body 6.5x3.5mm, Pitch 2.3mm, IPC High Density)
footprint ADI-KC-3_M (SOT223, 4-Leads, Body 6.5x3.5mm, Pitch 2.3mm, IPC Low Density)
pins: 1 GND (power) "Ground Pin.", 2 OUT (power) "Regulator Output. Bypass to ground with a 1 uF or larger capacitor.", 3 IN (power) "Regulator Input. Bypass to ground with a 1 uF or larger capacitor."

## ADP3338AKCZ-1.8-R7
designator U?
High Accuracy, Ultralow IQ, 1 A, anyCAP(R) Low Dropout Regulator, 2.7 to 8 V Vin, 1.8 V Vout, Industrial, 3-pin SOT223 (KC-3), Reel; Manufacturer: Analog Devices; PartNumber: ADP3338AKCZ-1.8-R7; Vin (max) (V): 8; Vin (min) (V): 2.7; DatasheetVersion: Rev. B; PackageVersion: 11-20-2012-B, 11/2012; PackageReference: KC-3; PackageDescription: 3-Pin Small Outline Transistor Package, Body 3.5 x 6.5 mm, Pitch 2.3 mm; Supplier 1: Digi-Key; Supplier Part Number 1: ADP3338AKCZ-1.8-R7TR-ND; Supplier 2: Digi-Key; Supplier Part Number 2: ADP3338AKCZ-1.8-R7CT-ND; Supplier 3: Digi-Key; Supplier Part Number 3: ADP3338AKCZ-1.8-R7DKR-ND; Supplier 4: Farnell; Supplier Part Number 4: 2112616; Supplier 5: Newark; Supplier Part Number 5: 59K2616; Supplier 6: Newark; Supplier Part Number 6: 28X3292; Supplier 7: Mouser; Supplier Part Number 7: 584-ADP3338AKCZ1.8R7; Packing: Reel; Mounting Technology: Surface Mount; Code_JEDEC: TO-261-AA; ComponentLink1Description: Manufacturer URL; ComponentLink1URL: http://www.analog.com/en/index.html; ComponentLink2Description: Datasheet; ComponentLink2URL: http://www.analog.com/static/imported-files/data_sheets/ADP3338.pdf; ComponentLink3Description: Package Specification; ComponentLink3URL: http:/www.analog.com/static/imported-files/packages/PKG_PDF/SOT_223(KC)/KC_3.pdf; ComponentLink4Description: URL Link1; ComponentLink4URL: Product URL:http://www.analog.com/en/ADP3338/productSearch.html
footprint ADI-KC-3_N (SOT223, 4-Leads, Body 6.5x3.5mm, Pitch 2.3mm, IPC Medium Density)
footprint ADI-KC-3_L (SOT223, 4-Leads, Body 6.5x3.5mm, Pitch 2.3mm, IPC High Density)
footprint ADI-KC-3_M (SOT223, 4-Leads, Body 6.5x3.5mm, Pitch 2.3mm, IPC Low Density)
pins: 1 GND (power) "Ground Pin.", 2 OUT (power) "Regulator Output. Bypass to ground with a 1 uF or larger capacitor.", 3 IN (power) "Regulator Input. Bypass to ground with a 1 uF or larger capacitor."

## ADP3338AKCZ-1.8-RL
designator U?
High Accuracy, Ultralow IQ, 1 A, anyCAP(R) Low Dropout Regulator, 2.7 to 8 V Vin, 1.8 V Vout, Industrial, 3-pin SOT223 (KC-3), Reel; Manufacturer: Analog Devices; PartNumber: ADP3338AKCZ-1.8-RL; Vin (max) (V): 8; Vin (min) (V): 2.7; DatasheetVersion: Rev. B; PackageVersion: 11-20-2012-B, 11/2012; PackageReference: KC-3; PackageDescription: 3-Pin Small Outline Transistor Package, Body 3.5 x 6.5 mm, Pitch 2.3 mm; Supplier 1: Digi-Key; Supplier Part Number 1: ADP3338AKCZ-1.8-RLTR-ND; Supplier 2: Digi-Key; Supplier Part Number 2: ADP3338AKCZ-1.8-RLCT-ND; Supplier 3: Digi-Key; Supplier Part Number 3: ADP3338AKCZ-1.8-RLDKR-ND; Supplier 4: Newark; Supplier Part Number 4: 59K2615; Supplier 5: Mouser; Supplier Part Number 5: 584-ADP3338AKCZ1.8R; Packing: Reel; Mounting Technology: Surface Mount; Code_JEDEC: TO-261-AA; ComponentLink1Description: Manufacturer URL; ComponentLink1URL: http://www.analog.com/en/index.html; ComponentLink2Description: Datasheet; ComponentLink2URL: http://www.analog.com/static/imported-files/data_sheets/ADP3338.pdf; ComponentLink3Description: Package Specification; ComponentLink3URL: http:/www.analog.com/static/imported-files/packages/PKG_PDF/SOT_223(KC)/KC_3.pdf; ComponentLink4Description: URL Link1; ComponentLink4URL: Product URL:http://www.analog.com/en/ADP3338/productSearch.html
footprint ADI-KC-3_N (SOT223, 4-Leads, Body 6.5x3.5mm, Pitch 2.3mm, IPC Medium Density)
footprint ADI-KC-3_L (SOT223, 4-Leads, Body 6.5x3.5mm, Pitch 2.3mm, IPC High Density)
footprint ADI-KC-3_M (SOT223, 4-Leads, Body 6.5x3.5mm, Pitch 2.3mm, IPC Low Density)
pins: 1 GND (power) "Ground Pin.", 2 OUT (power) "Regulator Output. Bypass to ground with a 1 uF or larger capacitor.", 3 IN (power) "Regulator Input. Bypass to ground with a 1 uF or larger capacitor."

## ADP3338AKCZ-2.5-RL
designator U?
High Accuracy, Ultralow IQ, 1 A, anyCAP(R) Low Dropout Regulator, 2.7 to 8 V Vin, 2.5 V Vout, Industrial, 3-pin SOT223 (KC-3), Reel; Manufacturer: Analog Devices; PartNumber: ADP3338AKCZ-2.5-RL; Vin (max) (V): 8; Vin (min) (V): 2.7; DatasheetVersion: Rev. B; PackageVersion: 11-20-2012-B, 11/2012; PackageReference: KC-3; PackageDescription: 3-Pin Small Outline Transistor Package, Body 3.5 x 6.5 mm, Pitch 2.3 mm; Supplier 1: Digi-Key; Supplier Part Number 1: ADP3338AKCZ-2.5-RLTR-ND; Supplier 2: Digi-Key; Supplier Part Number 2: ADP3338AKCZ-2.5-RLCT-ND; Supplier 3: Digi-Key; Supplier Part Number 3: ADP3338AKCZ-2.5-RLDKR-ND; Supplier 4: Newark; Supplier Part Number 4: 59K2617; Supplier 5: Mouser; Supplier Part Number 5: 584-ADP3338AKCZ2.5R; Packing: Reel; Mounting Technology: Surface Mount; Code_JEDEC: TO-261-AA; ComponentLink1Description: Manufacturer URL; ComponentLink1URL: http://www.analog.com/en/index.html; ComponentLink2Description: Datasheet; ComponentLink2URL: http://www.analog.com/static/imported-files/data_sheets/ADP3338.pdf; ComponentLink3Description: Package Specification; ComponentLink3URL: http:/www.analog.com/static/imported-files/packages/PKG_PDF/SOT_223(KC)/KC_3.pdf; ComponentLink4Description: URL Link1; ComponentLink4URL: Product URL:http://www.analog.com/en/ADP3338/productSearch.html
footprint ADI-KC-3_N (SOT223, 4-Leads, Body 6.5x3.5mm, Pitch 2.3mm, IPC Medium Density)
footprint ADI-KC-3_L (SOT223, 4-Leads, Body 6.5x3.5mm, Pitch 2.3mm, IPC High Density)
footprint ADI-KC-3_M (SOT223, 4-Leads, Body 6.5x3.5mm, Pitch 2.3mm, IPC Low Density)
pins: 1 GND (power) "Ground Pin.", 2 OUT (power) "Regulator Output. Bypass to ground with a 1 uF or larger capacitor.", 3 IN (power) "Regulator Input. Bypass to ground with a 1 uF or larger capacitor."

## ADP3338AKCZ-2.5RL7
designator U?
High Accuracy, Ultralow IQ, 1 A, anyCAP(R) Low Dropout Regulator, 2.7 to 8 V Vin, 2.5 V Vout, Industrial, 3-pin SOT223 (KC-3), Reel; Manufacturer: Analog Devices; PartNumber: ADP3338AKCZ-2.5RL7; Vin (max) (V): 8; Vin (min) (V): 2.7; DatasheetVersion: Rev. B; PackageVersion: 11-20-2012-B, 11/2012; PackageReference: KC-3; PackageDescription: 3-Pin Small Outline Transistor Package, Body 3.5 x 6.5 mm, Pitch 2.3 mm; Supplier 1: Digi-Key; Supplier Part Number 1: ADP3338AKCZ-2.5RL7TR-ND; Supplier 2: Digi-Key; Supplier Part Number 2: ADP3338AKCZ-2.5RL7CT-ND; Supplier 3: Digi-Key; Supplier Part Number 3: ADP3338AKCZ-2.5RL7DKR-ND; Supplier 4: Newark; Supplier Part Number 4: 19M8719; Supplier 5: Mouser; Supplier Part Number 5: 584-ADP3338AKCZ2.5R7; Packing: Reel; Mounting Technology: Surface Mount; Code_JEDEC: TO-261-AA; ComponentLink1Description: Manufacturer URL; ComponentLink1URL: http://www.analog.com/en/index.html; ComponentLink2Description: Datasheet; ComponentLink2URL: http://www.analog.com/static/imported-files/data_sheets/ADP3338.pdf; ComponentLink3Description: Package Specification; ComponentLink3URL: http:/www.analog.com/static/imported-files/packages/PKG_PDF/SOT_223(KC)/KC_3.pdf; ComponentLink4Description: URL Link1; ComponentLink4URL: Product URL:http://www.analog.com/en/ADP3338/productSearch.html
footprint ADI-KC-3_N (SOT223, 4-Leads, Body 6.5x3.5mm, Pitch 2.3mm, IPC Medium Density)
footprint ADI-KC-3_L (SOT223, 4-Leads, Body 6.5x3.5mm, Pitch 2.3mm, IPC High Density)
footprint ADI-KC-3_M (SOT223, 4-Leads, Body 6.5x3.5mm, Pitch 2.3mm, IPC Low Density)
pins: 1 GND (power) "Ground Pin.", 2 OUT (power) "Regulator Output. Bypass to ground with a 1 uF or larger capacitor.", 3 IN (power) "Regulator Input. Bypass to ground with a 1 uF or larger capacitor."

## ADP3338AKCZ-2.85R7
designator U?
High Accuracy, Ultralow IQ, 1 A, anyCAP(R) Low Dropout Regulator, 2.7 to 8 V Vin, 2.85 V Vout, Industrial, 3-pin SOT223 (KC-3), Reel; Manufacturer: Analog Devices; PartNumber: ADP3338AKCZ-2.85R7; Vin (max) (V): 8; Vin (min) (V): 2.7; DatasheetVersion: Rev. B; PackageVersion: 11-20-2012-B, 11/2012; PackageReference: KC-3; PackageDescription: 3-Pin Small Outline Transistor Package, Body 3.5 x 6.5 mm, Pitch 2.3 mm; Supplier 1: Digi-Key; Supplier Part Number 1: ADP3338AKCZ-2.85R7TR-ND; Supplier 2: Digi-Key; Supplier Part Number 2: ADP3338AKCZ-2.85R7CT-ND; Supplier 3: Digi-Key; Supplier Part Number 3: ADP3338AKCZ-2.85R7DKR-ND; Supplier 4: Newark; Supplier Part Number 4: 12M8160; Supplier 5: Mouser; Supplier Part Number 5: 584-AP3338AKCZ2.85R7; Packing: Reel; Mounting Technology: Surface Mount; Code_JEDEC: TO-261-AA; ComponentLink1Description: Manufacturer URL; ComponentLink1URL: http://www.analog.com/en/index.html; ComponentLink2Description: Datasheet; ComponentLink2URL: http://www.analog.com/static/imported-files/data_sheets/ADP3338.pdf; ComponentLink3Description: Package Specification; ComponentLink3URL: http:/www.analog.com/static/imported-files/packages/PKG_PDF/SOT_223(KC)/KC_3.pdf; ComponentLink4Description: URL Link1; ComponentLink4URL: Product URL:http://www.analog.com/en/ADP3338/productSearch.html
footprint ADI-KC-3_N (SOT223, 4-Leads, Body 6.5x3.5mm, Pitch 2.3mm, IPC Medium Density)
footprint ADI-KC-3_L (SOT223, 4-Leads, Body 6.5x3.5mm, Pitch 2.3mm, IPC High Density)
footprint ADI-KC-3_M (SOT223, 4-Leads, Body 6.5x3.5mm, Pitch 2.3mm, IPC Low Density)
pins: 1 GND (power) "Ground Pin.", 2 OUT (power) "Regulator Output. Bypass to ground with a 1 uF or larger capacitor.", 3 IN (power) "Regulator Input. Bypass to ground with a 1 uF or larger capacitor."

## ADP3338AKCZ-3-RL7
designator U?
High Accuracy, Ultralow IQ, 1 A, anyCAP(R) Low Dropout Regulator, 2.7 to 8 V Vin, 3 V Vout, Industrial, 3-pin SOT223 (KC-3), Reel; Manufacturer: Analog Devices; PartNumber: ADP3338AKCZ-3-RL7; Iout max: 1A; Preset Vout Values (V): 3.0; Supply Current IGND @ Small Load: 110uA; Vin (max) (V): 8; Vin (min) (V): 2.7; DatasheetVersion: Rev. B; PackageVersion: 11-20-2012-B, 11/2012; PackageReference: KC-3; PackageDescription: 3-Pin Small Outline Transistor Package, Body 3.5 x 6.5 mm, Pitch 2.3 mm; Supplier 1: Digi-Key; Supplier Part Number 1: ADP3338AKCZ-3-RL7TR-ND; Supplier 2: Digi-Key; Supplier Part Number 2: ADP3338AKCZ-3-RL7CT-ND; Supplier 3: Digi-Key; Supplier Part Number 3: ADP3338AKCZ-3-RL7DKR-ND; Supplier 4: Newark; Supplier Part Number 4: 59K2621; Supplier 5: Mouser; Supplier Part Number 5: 584-ADP3338AKCZ-3-R7; Packing: Reel; Mounting Technology: Surface Mount; Code_JEDEC: TO-261-AA; ComponentLink1Description: Manufacturer URL; ComponentLink1URL: http://www.analog.com/en/index.html; ComponentLink2Description: Datasheet; ComponentLink2URL: http://www.analog.com/static/imported-files/data_sheets/ADP3338.pdf; ComponentLink3Description: Package Specification; ComponentLink3URL: http:/www.analog.com/static/imported-files/packages/PKG_PDF/SOT_223(KC)/KC_3.pdf; ComponentLink4Description: URL Link1; ComponentLink4URL: Product URL:http://www.analog.com/en/ADP3338/productSearch.html
footprint ADI-KC-3_N (SOT223, 4-Leads, Body 6.5x3.5mm, Pitch 2.3mm, IPC Medium Density)
footprint ADI-KC-3_L (SOT223, 4-Leads, Body 6.5x3.5mm, Pitch 2.3mm, IPC High Density)
footprint ADI-KC-3_M (SOT223, 4-Leads, Body 6.5x3.5mm, Pitch 2.3mm, IPC Low Density)
pins: 1 GND (power) "Ground Pin.", 2 OUT (power) "Regulator Output. Bypass to ground with a 1 uF or larger capacitor.", 3 IN (power) "Regulator Input. Bypass to ground with a 1 uF or larger capacitor."

## ADP3338AKCZ-3.3-RL
designator U?
High Accuracy, Ultralow IQ, 1 A, anyCAP(R) Low Dropout Regulator, 2.7 to 8 V Vin, 3.3 V Vout, Industrial, 3-pin SOT223 (KC-3), Reel; Manufacturer: Analog Devices; PartNumber: ADP3338AKCZ-3.3-RL; Iout max: 1A; Preset Vout Values (V): 3.3; Supply Current IGND @ Small Load: 110uA; Vin (max) (V): 8; Vin (min) (V): 2.7; DatasheetVersion: Rev. B; PackageVersion: 11-20-2012-B, 11/2012; PackageReference: KC-3; PackageDescription: 3-Pin Small Outline Transistor Package, Body 3.5 x 6.5 mm, Pitch 2.3 mm; Supplier 1: Digi-Key; Supplier Part Number 1: ADP3338AKCZ-3.3-RLTR-ND; Supplier 2: Digi-Key; Supplier Part Number 2: ADP3338AKCZ-3.3-RLCT-ND; Supplier 3: Digi-Key; Supplier Part Number 3: ADP3338AKCZ-3.3-RLDKR-ND; Supplier 4: Newark; Supplier Part Number 4: 59K2619; Supplier 5: Mouser; Supplier Part Number 5: 584-ADP3338AKCZ3.3R; Packing: Reel; Mounting Technology: Surface Mount; Code_JEDEC: TO-261-AA; ComponentLink1Description: Manufacturer URL; ComponentLink1URL: http://www.analog.com/en/index.html; ComponentLink2Description: Datasheet; ComponentLink2URL: http://www.analog.com/static/imported-files/data_sheets/ADP3338.pdf; ComponentLink3Description: Package Specification; ComponentLink3URL: http:/www.analog.com/static/imported-files/packages/PKG_PDF/SOT_223(KC)/KC_3.pdf; ComponentLink4Description: URL Link1; ComponentLink4URL: Product URL:http://www.analog.com/en/ADP3338/productSearch.html
footprint ADI-KC-3_N (SOT223, 4-Leads, Body 6.5x3.5mm, Pitch 2.3mm, IPC Medium Density)
footprint ADI-KC-3_L (SOT223, 4-Leads, Body 6.5x3.5mm, Pitch 2.3mm, IPC High Density)
footprint ADI-KC-3_M (SOT223, 4-Leads, Body 6.5x3.5mm, Pitch 2.3mm, IPC Low Density)
pins: 1 GND (power) "Ground Pin.", 2 OUT (power) "Regulator Output. Bypass to ground with a 1 uF or larger capacitor.", 3 IN (power) "Regulator Input. Bypass to ground with a 1 uF or larger capacitor."

## ADP3338AKCZ-3.3RL7
designator U?
High Accuracy, Ultralow IQ, 1 A, anyCAP(R) Low Dropout Regulator, 2.7 to 8 V Vin, 3.3 V Vout, Industrial, 3-pin SOT223 (KC-3), Reel; Manufacturer: Analog Devices; PartNumber: ADP3338AKCZ-3.3RL7; Iout max: 1A; Preset Vout Values (V): 3.3; Supply Current IGND @ Small Load: 110uA; Vin (max) (V): 8; Vin (min) (V): 2.7; DatasheetVersion: Rev. B; PackageVersion: 11-20-2012-B, 11/2012; PackageReference: KC-3; PackageDescription: 3-Pin Small Outline Transistor Package, Body 3.5 x 6.5 mm, Pitch 2.3 mm; Supplier 1: Digi-Key; Supplier Part Number 1: ADP3338AKCZ-3.3RL7TR-ND; Supplier 2: Digi-Key; Supplier Part Number 2: ADP3338AKCZ-3.3RL7CT-ND; Supplier 3: Digi-Key; Supplier Part Number 3: ADP3338AKCZ-3.3RL7DKR-ND; Supplier 4: Farnell; Supplier Part Number 4: 1319313; Supplier 5: Newark; Supplier Part Number 5: 19M8720; Supplier 6: Newark; Supplier Part Number 6: 59K2620; Supplier 7: Mouser; Supplier Part Number 7: 584-ADP3338AKCZ3.3R7; Packing: Reel; Mounting Technology: Surface Mount; Code_JEDEC: TO-261-AA; ComponentLink1Description: Manufacturer URL; ComponentLink1URL: http://www.analog.com/en/index.html; ComponentLink2Description: Datasheet; ComponentLink2URL: http://www.analog.com/static/imported-files/data_sheets/ADP3338.pdf; ComponentLink3Description: Package Specification; ComponentLink3URL: http:/www.analog.com/static/imported-files/packages/PKG_PDF/SOT_223(KC)/KC_3.pdf; ComponentLink4Description: URL Link1; ComponentLink4URL: Product URL:http://www.analog.com/en/ADP3338/productSearch.html
footprint ADI-KC-3_N (SOT223, 4-Leads, Body 6.5x3.5mm, Pitch 2.3mm, IPC Medium Density)
footprint ADI-KC-3_L (SOT223, 4-Leads, Body 6.5x3.5mm, Pitch 2.3mm, IPC High Density)
footprint ADI-KC-3_M (SOT223, 4-Leads, Body 6.5x3.5mm, Pitch 2.3mm, IPC Low Density)
pins: 1 GND (power) "Ground Pin.", 2 OUT (power) "Regulator Output. Bypass to ground with a 1 uF or larger capacitor.", 3 IN (power) "Regulator Input. Bypass to ground with a 1 uF or larger capacitor."

## ADP3338AKCZ-5-R7
designator U?
High Accuracy, Ultralow IQ, 1 A, anyCAP(R) Low Dropout Regulator, 2.7 to 8 V Vin, 5 V Vout, Industrial, 3-pin SOT223 (KC-3), Reel; Manufacturer: Analog Devices; PartNumber: ADP3338AKCZ-5-R7; Iout max: 1A; Preset Vout Values (V): 5.0; Supply Current IGND @ Small Load: 110uA; Vin (max) (V): 8; Vin (min) (V): 2.7; DatasheetVersion: Rev. B; PackageVersion: 11-20-2012-B, 11/2012; PackageReference: KC-3; PackageDescription: 3-Pin Small Outline Transistor Package, Body 3.5 x 6.5 mm, Pitch 2.3 mm; Supplier 1: Digi-Key; Supplier Part Number 1: ADP3338AKCZ-5-R7TR-ND; Supplier 2: Digi-Key; Supplier Part Number 2: ADP3338AKCZ-5-R7CT-ND; Supplier 3: Digi-Key; Supplier Part Number 3: ADP3338AKCZ-5-R7DKR-ND; Supplier 4: Newark; Supplier Part Number 4: 19M8721; Supplier 5: Newark; Supplier Part Number 5: 12M8161; Supplier 6: Mouser; Supplier Part Number 6: 584-ADP3338AKCZ-5-R7; Packing: Reel; Mounting Technology: Surface Mount; Code_JEDEC: TO-261-AA; ComponentLink1Description: Manufacturer URL; ComponentLink1URL: http://www.analog.com/en/index.html; ComponentLink2Description: Datasheet; ComponentLink2URL: http://www.analog.com/static/imported-files/data_sheets/ADP3338.pdf; ComponentLink3Description: Package Specification; ComponentLink3URL: http:/www.analog.com/static/imported-files/packages/PKG_PDF/SOT_223(KC)/KC_3.pdf; ComponentLink4Description: URL Link1; ComponentLink4URL: Product URL:http://www.analog.com/en/ADP3338/productSearch.html
footprint ADI-KC-3_N (SOT223, 4-Leads, Body 6.5x3.5mm, Pitch 2.3mm, IPC Medium Density)
footprint ADI-KC-3_L (SOT223, 4-Leads, Body 6.5x3.5mm, Pitch 2.3mm, IPC High Density)
footprint ADI-KC-3_M (SOT223, 4-Leads, Body 6.5x3.5mm, Pitch 2.3mm, IPC Low Density)
pins: 1 GND (power) "Ground Pin.", 2 OUT (power) "Regulator Output. Bypass to ground with a 1 uF or larger capacitor.", 3 IN (power) "Regulator Input. Bypass to ground with a 1 uF or larger capacitor."

## ADP3338AKCZ-5-REEL
designator U?
High Accuracy, Ultralow IQ, 1 A, anyCAP(R) Low Dropout Regulator, 2.7 to 8 V Vin, 5 V Vout, Industrial, 3-pin SOT223 (KC-3), Reel; Manufacturer: Analog Devices; PartNumber: ADP3338AKCZ-5-REEL; Iout max: 1A; Preset Vout Values (V): 5.0; Supply Current IGND @ Small Load: 110uA; Vin (max) (V): 8; Vin (min) (V): 2.7; DatasheetVersion: Rev. B; PackageVersion: 11-20-2012-B, 11/2012; PackageReference: KC-3; PackageDescription: 3-Pin Small Outline Transistor Package, Body 3.5 x 6.5 mm, Pitch 2.3 mm; Supplier 1: Digi-Key; Supplier Part Number 1: ADP3338AKCZ-5-REELTR-ND; Supplier 2: Digi-Key; Supplier Part Number 2: ADP3338AKCZ-5-REELCT-ND; Supplier 3: Digi-Key; Supplier Part Number 3: ADP3338AKCZ-5-REELDKR-ND; Supplier 4: Newark; Supplier Part Number 4: 59K2622; Supplier 5: Mouser; Supplier Part Number 5: 584-ADP3338AKCZ5-R; Packing: Reel; Mounting Technology: Surface Mount; Code_JEDEC: TO-261-AA; ComponentLink1Description: Manufacturer URL; ComponentLink1URL: http://www.analog.com/en/index.html; ComponentLink2Description: Datasheet; ComponentLink2URL: http://www.analog.com/static/imported-files/data_sheets/ADP3338.pdf; ComponentLink3Description: Package Specification; ComponentLink3URL: http:/www.analog.com/static/imported-files/packages/PKG_PDF/SOT_223(KC)/KC_3.pdf; ComponentLink4Description: URL Link1; ComponentLink4URL: Product URL:http://www.analog.com/en/ADP3338/productSearch.html
footprint ADI-KC-3_N (SOT223, 4-Leads, Body 6.5x3.5mm, Pitch 2.3mm, IPC Medium Density)
footprint ADI-KC-3_L (SOT223, 4-Leads, Body 6.5x3.5mm, Pitch 2.3mm, IPC High Density)
footprint ADI-KC-3_M (SOT223, 4-Leads, Body 6.5x3.5mm, Pitch 2.3mm, IPC Low Density)
pins: 1 GND (power) "Ground Pin.", 2 OUT (power) "Regulator Output. Bypass to ground with a 1 uF or larger capacitor.", 3 IN (power) "Regulator Input. Bypass to ground with a 1 uF or larger capacitor."